# Altium footprint library Misc.PcbLib: 133 footprints (part 1 of 9)
Each footprint in its own frame and in the unit in brackets; x right, y up, seen from the top. Pads: shape width x height; smd on the part's side, far side on the other; paste and mask are expansions set on the pad; w line width, h text height; cw(c..) or ccw(c..) is an arc to the next point about the centre after c.
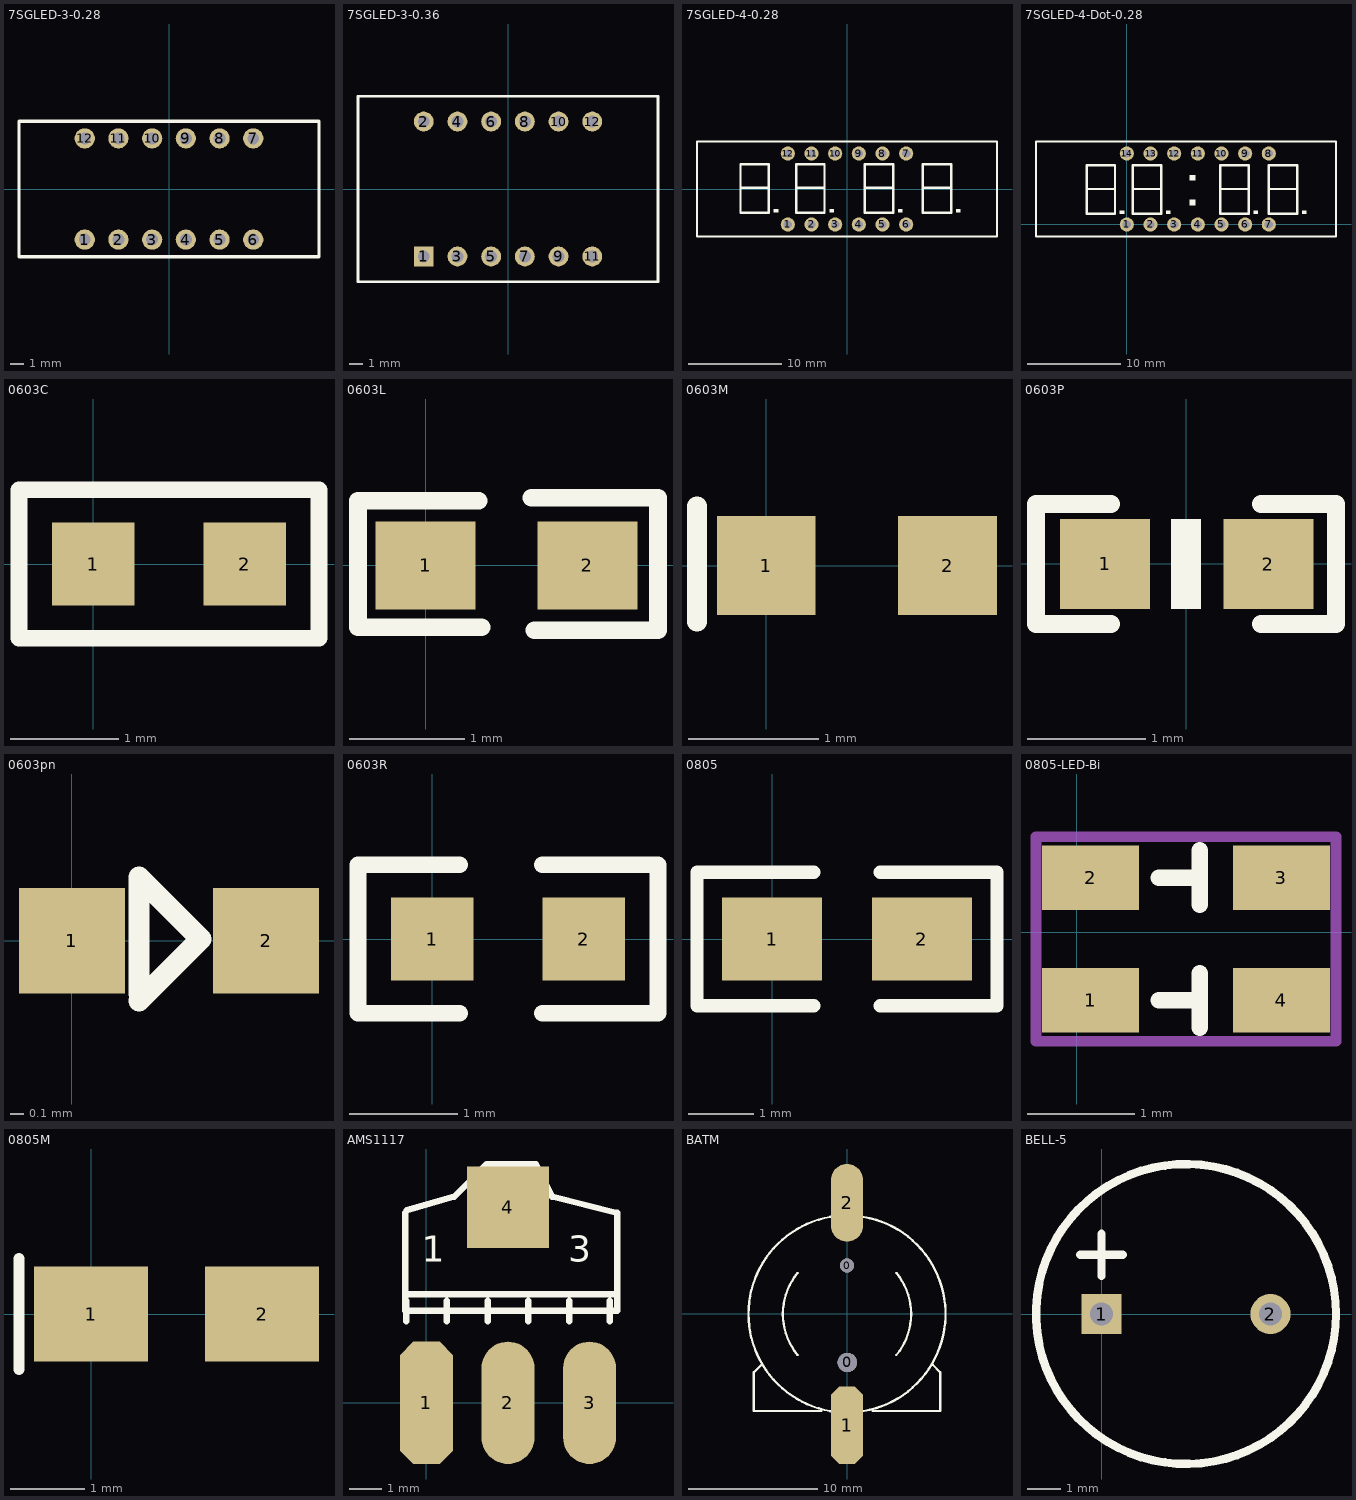
[diagram p0: the footprints below, top view; thin cyan lines are the x and y axes]

## 7SGLED-3-0.28 [mil]
pads (12):
  round 60 hole 35: 1(-250,-150) 2(-150,-150) 3(-50,-150) 4(50,-150) 5(150,-150) 6(250,-150) 7(250,150) 8(150,150) 9(50,150) 10(-50,150) 11(-150,150) 12(-250,150)
Top Overlay:
  lines w10: -445,-200.79 -445,200.79 445,200.79 445,-200.79 -445,-200.79

## 7SGLED-3-0.36 [mm] "22.5x14x7.2MM"
pads (12):
  rect 1.5x1.5 hole 0.9: 1(-6.35,-5.08)
  round 1.5 hole 0.9: 2(-6.35,5.08) 3(-3.81,-5.08) 4(-3.81,5.08) 5(-1.27,-5.08) 6(-1.27,5.08) 7(1.27,-5.08) 8(1.27,5.08) 9(3.81,-5.08) 10(3.81,5.08) 11(6.35,-5.08) 12(6.35,5.08)
Top Overlay:
  lines w0.2: -11.303,-6.985 -11.303,6.985 11.303,6.985 11.303,-6.985 -11.303,-6.985

## 7SGLED-4-0.28 [mil]
pads (12):
  round 60 hole 35: 1(-250,-150) 2(-150,-150) 3(-50,-150) 4(50,-150) 5(150,-150) 6(250,-150) 7(250,150) 8(150,150) 9(50,150) 10(-50,150) 11(-150,150) 12(-250,150)
Top Overlay:
  rectangle: 215,-100 235,-85
  rectangle: -75,-100 -55,-85
  rectangle: 460,-100 480,-85
  rectangle: -310,-100 -290,-85
  lines w10: -450,5 -330,5 ; -215,5 -95,5 ; 75,5 195,5 ; 320,5 440,5 ; -633.86,-200.79 -633.86,200.79 633.86,200.79 633.86,-200.79 -633.86,-200.79 ; -450,-100 -450,105 -330,105 -330,-100 -450,-100 ; -215,-100 -215,105 -95,105 -95,-100 -215,-100 ; 75,-100 75,105 195,105 195,-100 75,-100 ; 320,-100 440,-100 440,105 320,105 320,-100

## 7SGLED-4-Dot-0.28 [mil]
pads (14):
  round 60 hole 35: 1(0,0) 2(100,0) 3(200,0) 4(300,0) 5(400,0) 6(500,0) 7(600,0) 8(600,300) 9(500,300) 10(400,300) 11(300,300) 12(200,300) 13(100,300) 14(0,300)
Top Overlay:
  rectangle: -30,45 -10,60
  rectangle: 165,45 185,60
  rectangle: 535,45 555,60
  rectangle: 740,45 760,60
  rectangle: 265,185 290,210
  rectangle: 265,80 290,105
  region: -180,265
  region: -180,265
  region: -180,265
  region: -180,265
  region: -180,265
  region: -180,265
  lines w10: -170,150 -50,150 ; 25,150 145,150 ; 395,150 515,150 ; 600,150 720,150 ; -383.86,-50.79 883.86,-50.79 883.86,350.79 -383.86,350.79 -383.86,-50.79 ; -170,45 -50,45 -50,250 -170,250 -170,45 ; 25,45 25,250 145,250 145,45 25,45 ; 395,45 395,250 515,250 515,45 395,45 ; 600,45 600,250 720,250 720,45 600,45

## 0603C [mil]
pads (2):
  rect 30x30 smd: 1(0,0) 2(55,0)
Top Overlay:
  lines w6: 81,27 -27,27 -27,-27 82,-27 82,27
3D body: height 12.49, standoff 0.6, extent -4.49,-15.75 58.51,15.75

## 0603L [mil] "0603 LONG"
height 200
pads (2):
  rect 33.94x30 smd: 1(0,0) 2(55,0)
Top Overlay:
  lines w6: 18,22 -23,22 -23,-21 19,-21 ; 36,23 79,23 79,-22 37,-22

## 0603M [mil]
height 200
pads (2):
  rect 30x30 smd: 1(0,0) 2(55,0)
Top Overlay:
  lines w6: -21,-17 -21,18
3D body: height 43.31, standoff 0, extent -5,-15 60,15

## 0603P [mil]
pads (2):
  rect 30x30 smd: 1(-27,0) 2(27.5,-0.06)
Top Overlay:
  region: 5,-15.06 5,14.94 -5,14.94 -5,-15.06
  lines w6: -25,-20.06 -50,-20.06 -50,19.94 -25,19.94 ; 25,-20.06 50,-20.06 50,19.94 25,19.94

## 0603pn [mil]
height 200
pads (2):
  rect 30x30 smd: 1(0,0) 2(55,0)
Top Overlay:
  lines w6: 19,-17 36.5,0.5 19,18 19,-15 20,-16

## 0603R [mil]
pads (2):
  rect 30x30 smd: 1(0,0) 2(55,0)
Top Overlay:
  lines w6: 10,-27 -27,-27 -27,27 10,27 ; 40,-27 82,-27 82,27 40,27
3D body: height 17.76, standoff 0, extent -3.51,-17.73 57.51,15.73

## 0805 [mil]
pads (2):
  rect 60x50 smd: 1(0,0) 2(90,0)
Top Overlay:
  lines w8: 25,-40 -45,-40 -45,40 25,40 ; 65,-40 135,-40 135,40 65,40

## 0805-LED-Bi [mm]
pads (4):
  rect 0.9x0.6 smd: 1(0.127,-0.635) 2(0.127,0.508) 3(1.905,0.508) 4(1.905,-0.635)
Top Overlay:
  lines w0.152: 0.762,-0.635 1.143,-0.635 ; 0.762,0.508 1.143,0.508 ; 1.143,-0.889 1.143,-0.381 ; 1.143,0.254 1.143,0.762
Mechanical 15:
  lines w0.1: -0.381,-1.016 -0.381,0.889 2.413,0.889 2.413,-1.016 -0.381,-1.016
3D body: height 1.1, standoff 0, extent 0.316,-1.016 1.716,0.903

## 0805M [mil]
pads (2):
  rect 60x50 smd: 1(0,0) 2(90,0)
Top Overlay:
  lines w6: -38,-29 -38,29

## AMS1117 [mil]
pads (4):
  oct 65x150 smd: 1(0.03,-0.06)
  oval 65x150 smd: 2(100.03,-0.06) 3(200.03,-0.06)
  rect 100x100 smd: 4(100.03,239.94)
Top Overlay:
  lines w7.87: -25.97,232.94 -25.97,132.94 ; -24.97,99.94 -24.97,124.94 ; -24.3,236.27 34.03,252.94 74.03,292.94 134.03,292.94 154.03,252.94 234.03,232.94 234.03,112.94 ; 25.03,99.94 25.03,124.94 ; 75.03,99.94 75.03,124.94 ; 125.03,99.94 125.03,124.94 ; 175.03,99.94 175.03,124.94 ; 225.03,99.94 225.03,124.94 ; -25.97,132.94 -25.97,112.94 234.03,112.94 ; -25.97,132.94 234.03,132.94 234.03,112.94
  text "1" at -5.97,172.94 h32.44
  text "3" at 174.03,172.94 h32.44

## BATM [mm]
pads (4):
  round 1.1 hole 1.1 unplated: 0(0,3.748)
  round 1.5 hole 1.5 unplated: 0(0.025,-3.752)
  oct 2.5x6 smd: 1(0,-8.602)
  oval 2.5x6 smd: 2(0,8.598)
Top Overlay:
  lines w0.178: -6.6,-3.902 -7.2,-4.502 -7.2,-7.502 -2,-7.502 ; -3.815,-3.171 cw(c0,-0.002) -3.812,3.171 ; -0.833,-7.576 cw(c0,-0.002) -7.62,-0.002 cw(c0,-0.002) -0.833,7.573 ; 0.833,-7.576 ccw(c0,-0.002) 0.833,7.573 ; 2,-7.502 7.2,-7.502 7.2,-4.502 6.625,-3.927 ; 3.81,-3.177 ccw(c0,-0.002) 3.812,3.171

## BELL-5 [mm]
pads (2):
  rect 1.2x1.2 hole 0.7: 1(0,0)
  round 1.2 hole 0.7: 2(5.08,0)
Top Overlay:
  circle w0.254: c2.54,0 r4.51
  lines w0.254: -0.635,1.778 0.635,1.778 ; 0,1.143 0,2.413